# EAGLE library part ATO-BLDC-3000R3 (library SolarCarMotors)
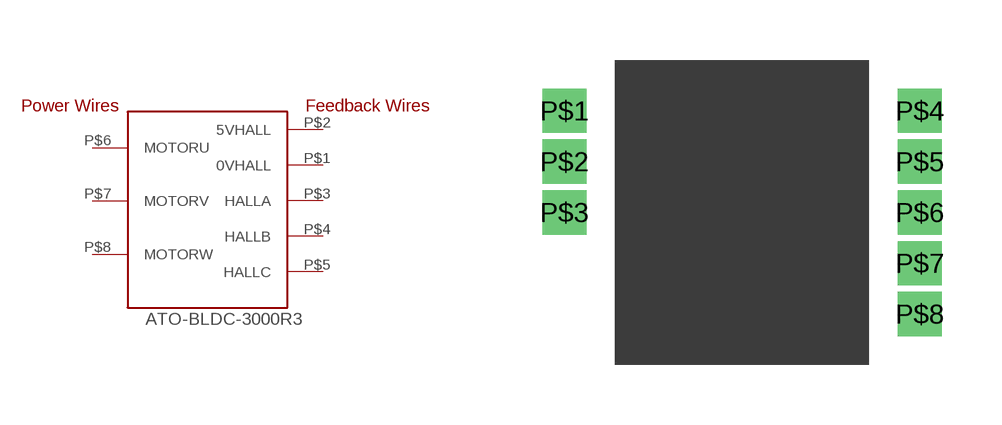
[diagram p0: symbol with the pads of ATO-BLDC-3000R3; footprint ATO-BLDC-3000R3]

Designator prefix -

## ATO-BLDC-3000R3  [ATO-BLDC-3000R3]
P$1  0VHALL
P$2  5VHALL
P$3  HALLA
P$4  HALLB
P$5  HALLC
P$6  MOTORU
P$7  MOTORV
P$8  MOTORW

## Footprint ATO-BLDC-3000R3 (pad centres in mm)
drill 0.6 square: P$1 -13.97,3.81; P$2 -13.97,2.54; P$3 -13.97,1.27; P$4 -5.08,3.81; P$5 -5.08,2.54; P$6 -5.08,1.27; P$7 -5.08,0; P$8 -5.08,-1.27